# EAGLE library part ST2221A (library st2221x)
ST2221A 8-Bit Constant Current LED Drivers
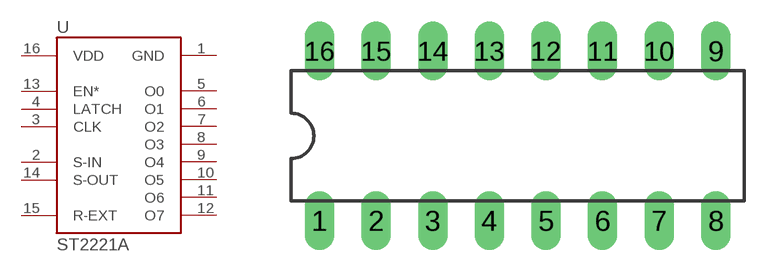
[diagram p0: symbol with the pads of PDIP16; footprint PDIP16]

Designator prefix -

## ST2221A  [PDIP16]
1  GND
2  S-IN
3  CLK
4  LATCH
5  O0
6  O1
7  O2
8  O3
9  O4
10  O5
11  O6
12  O7
13  EN*
14  S-OUT
15  R-EXT
16  VDD

## Footprint PDIP16 (pad centres in mm)
Dual inline package
drill 0.813 long: 1 2.54,1.27; 2 5.08,1.27; 3 7.62,1.27; 4 10.16,1.27; 5 12.7,1.27; 6 15.24,1.27; 7 17.78,1.27; 8 20.32,1.27; 9 20.32,8.89; 10 17.78,8.89; 11 15.24,8.89; 12 12.7,8.89; 13 10.16,8.89; 14 7.62,8.89; 15 5.08,8.89; 16 2.54,8.89